# Altium footprint library SOD-123.PcbLib: 1 footprints
Each footprint in its own frame and in the unit in brackets; x right, y up, seen from the top. Pads: shape width x height; smd on the part's side, far side on the other; paste and mask are expansions set on the pad; w line width, h text height; cw(c..) or ccw(c..) is an arc to the next point about the centre after c.
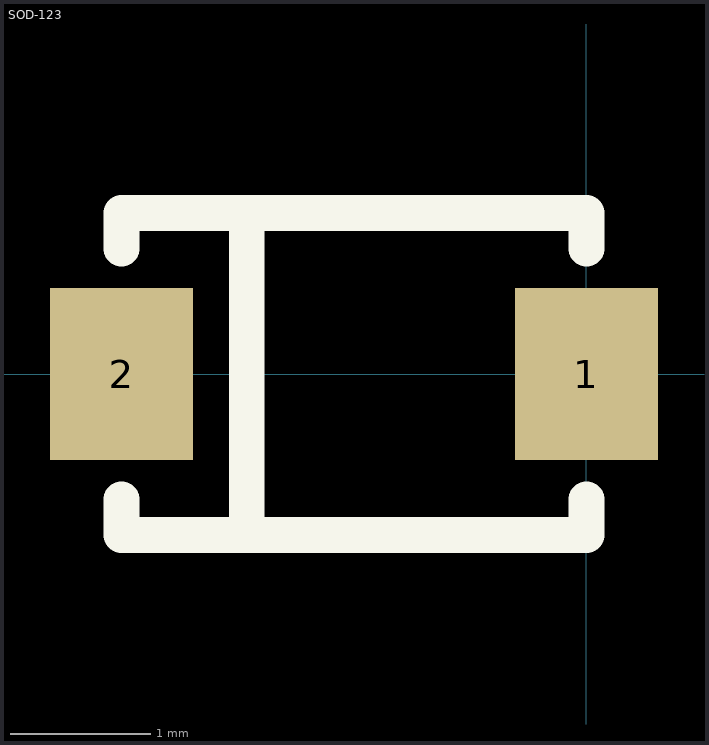
[diagram p0: the footprint, top view; thin cyan lines are the x and y axes]

## SOD-123 [mil]
pads (2):
  rect 40x48 smd: 1(0,0) 2(-130,0)
TopOverlay:
  lines w10: -130,-35 -130,-45 0,-45 0,-35 ; -95,-45 -95,45 ; 0,35 0,45 -130,45 ; -130,45 -130,35 -130,45
Mechanical4:
  text ".065" at -130,0 h1
3D body: height 50.6, standoff 0.6, extent -138.52,-35.29 15.03,35.57